# Altium integrated library RS_Transistors.IntLib: 9 symbols
Pins are listed as number, name and electrical type; pins without a type are passive.

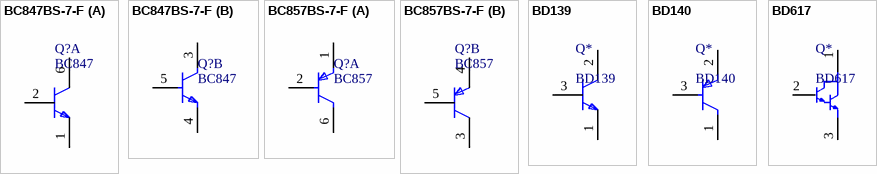
[diagram p0: symbols BC847BS-7-F to BD617]

## BC847BS-7-F
designator Q?, comment BC847
footprint SOT363_0
part A pins: 1 E2, 2 B2, 6 C2
part B pins: 3 C1, 4 E1, 5 B1

## BC857BS-7-F
designator Q?, comment BC857
footprint SOT363_0
part A pins: 1 E1, 2 B1, 6 C1
part B pins: 3 C2, 4 E2, 5 B2

## BD139
designator Q*
footprint TO-126
pins: 1, 2, 3

## BD140
designator Q*
footprint TO-126
pins: 1, 2, 3

## BD617
designator Q*
footprint TO-92A
footprint TO-92B
footprint TO-92C
footprint TO-92D
pins: 1, 2, 3
3 alternate drawings of the same symbol


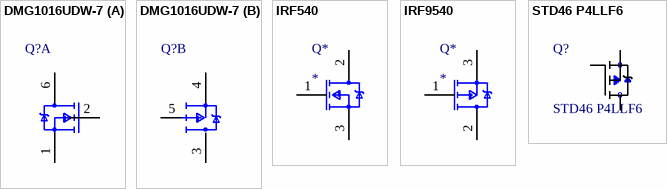
[diagram p1: symbols DMG1016UDW-7 to STD46 P4LLF6]

## DMG1016UDW-7
designator Q?  (value not drawn)
footprint SOT363_0
part A pins: 1 S1, 2 G1, 6 D1
part B pins: 3 D2, 4 S2, 5 G2

## IRF540
designator Q*
footprint TO-220AB
pins: 1, 2, 3

## IRF9540
designator Q*
footprint TO-220AB
pins: 1, 2, 3

## STD46 P4LLF6
designator Q?
P-Channel 40 V 10.6 mOhm OptiMOSÂ®-P2 Power-Transistor -PG-TO-252-3; MF: Infineon; Price: None; SnapEDA_Link: https://www.snapeda.com/parts/IPD50P04P4L-11/Infineon/view-part/?ref=snap; Availability: Unavailable; MP: STD46 P4LLF6; Package: TO-252-3 Infineon; Value: *
footprint DPAK228P998X235-3N
footprint SOT363_0
pins: 1 G, 2 D, 3 S